# EAGLE library part MAX1169BEUD+T (library MAX1169BEUD+T)
58.6ksps, 16-Bit, 2-Wire Serial ADC in a 14-Pin TSSOP Source: Datasheet <https://datasheet.datasheetarchive.com/originals/distributors/Datasheets-18/DSA-340693.pdf>
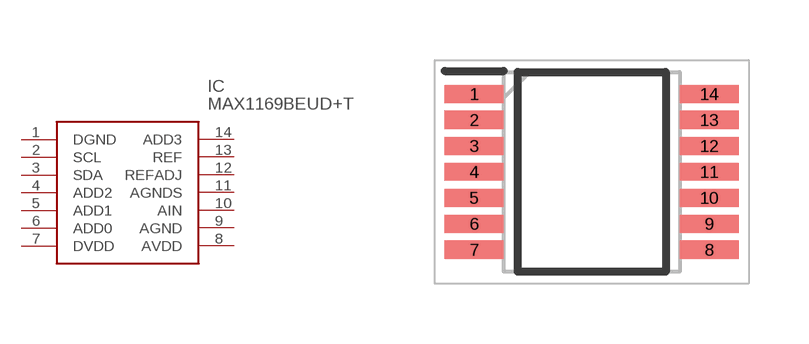
[diagram p0: symbol with the pads of SOP65P640X110-14N; footprint SOP65P640X110-14N]

Designator prefix IC

## MAX1169BEUD+T (Description: 58.6ksps, 16-Bit, 2-Wire Serial ADC in a 14-Pin TSSOP; Height: 1.1mm; Manufacturer_Name: Maxim Integrated; Manufacturer_Part_Number: MAX1169BEUD+T; Mouser_Part_Number: 700-MAX1169BEUD+T; Mouser_Price-Stock: https://www.mouser.com/Search/Refine.aspx?Keyword=700-MAX1169BEUD%2BT)  [SOP65P640X110-14N]
1  DGND
2  SCL
3  SDA
4  ADD2
5  ADD1
6  ADD0
7  DVDD
8  AVDD
9  AGND
10  AIN
11  AGNDS
12  REFADJ
13  REF
14  ADD3

## Footprint SOP65P640X110-14N (pad centres in mm)
14 TSSOP_1
smd 1.475 x 0.45: 1 -2.938,1.95; 2 -2.938,1.3; 3 -2.938,0.65; 4 -2.938,0; 5 -2.938,-0.65; 6 -2.938,-1.3; 7 -2.938,-1.95; 8 2.938,-1.95; 9 2.938,-1.3; 10 2.938,-0.65; 11 2.938,0; 12 2.938,0.65; 13 2.938,1.3; 14 2.938,1.95